# Altium footprint library 0430450610.PcbLib: 1 footprints
Each footprint in its own frame and in the unit in brackets; x right, y up, seen from the top. Pads: shape width x height; smd on the part's side, far side on the other; paste and mask are expansions set on the pad; w line width, h text height; cw(c..) or ccw(c..) is an arc to the next point about the centre after c.
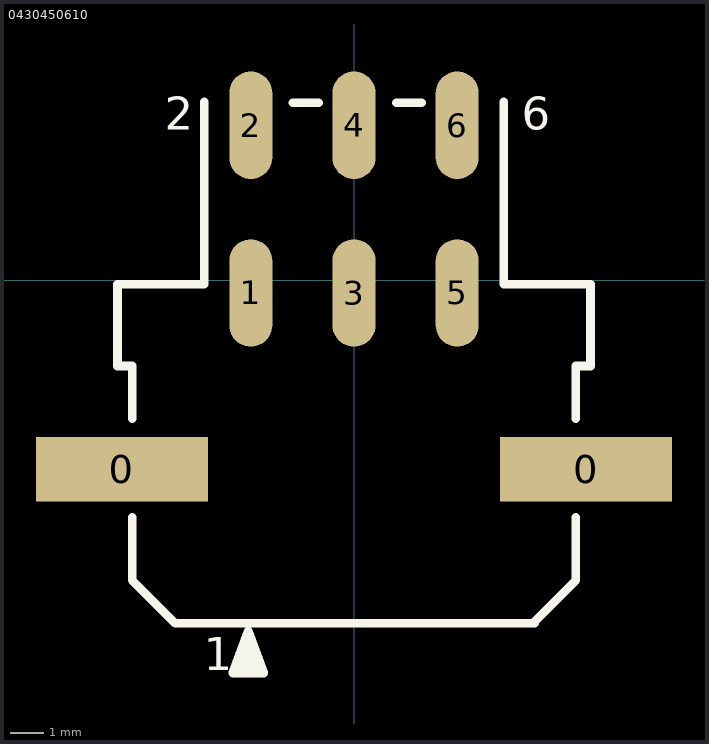
[diagram p0: the footprint, top view; thin cyan lines are the x and y axes]

## 0430450610 [mil]
pads (8):
  rect 200x75 smd: 0(-270,-220) 0(270,-220)
  oval 50x125 smd: 1(-120,-15) 2(-120,180) 3(0,-15) 4(0,180) 5(120,-15) 6(120,180)
Top Overlay:
  rectangle: -137,-457 -105,-446
  rectangle: -132,-461 -114,-421
  lines w10: -258,-276 -258,-349 -208,-399 210,-399 ; -258,-161 -258,-100 -275,-100 -275,-5 -174,-5 -174,207 ; -106,-457 -141,-457 -123,-408 -105,-457 ; -71,206 -41,206 ; 49,206 79,206 ; 174,207 174,-5 275,-5 275,-100 258,-100 258,-161 ; 208,-399 258,-349 258,-276
  text "1" at -175,-454 h38
  text "2" at -220,175 h38
  text "6" at 195,175 h38
3D body: height 345.35, standoff 0.08, extent -327.75,-399.88 327.76,206.42